# Altium integrated library Sensor_Motion.IntLib: 1 symbol
Pins are listed as number, name and electrical type; pins without a type are passive.

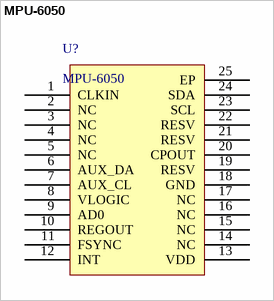
[diagram p0: symbol MPU-6050]

## MPU-6050
designator U?
InvenSense 6-Axis Motion Sensor, Gyroscope, Accelerometer, I2C
footprint QFN-24-1EP_4x4_P0.5mm_EP2.45x2.45mm (QFN, 24-Leads, Body 4.00x4.00mm, Pitch 0.50mm, Thermal Pad 2.45x2.45mm, IPC Low Density)
pins: 1 CLKIN, 2 NC, 3 NC, 4 NC, 5 NC, 6 AUX_DA, 7 AUX_CL, 8 VLOGIC, 9 AD0, 10 REGOUT, 11 FSYNC, 12 INT, 13 VDD, 14 NC, 15 NC, 16 NC, 17 NC, 18 GND, 19 RESV, 20 CPOUT, 21 RESV, 22 RESV, 23 SCL, 24 SDA, 25 EP